# Altium footprint library SOP-8_ISO1050.PcbLib: 1 footprints
Each footprint in its own frame and in the unit in brackets; x right, y up, seen from the top. Pads: shape width x height; smd on the part's side, far side on the other; paste and mask are expansions set on the pad; w line width, h text height; cw(c..) or ccw(c..) is an arc to the next point about the centre after c.
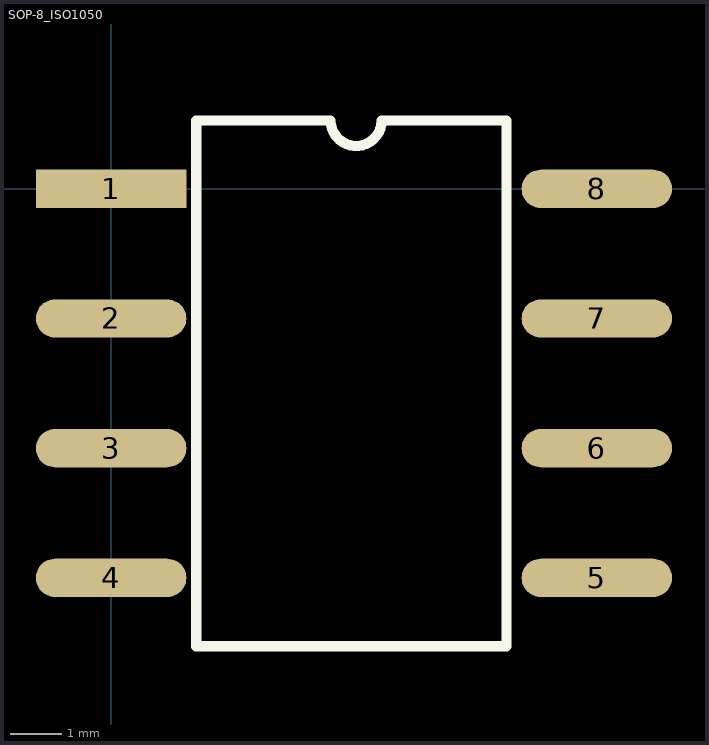
[diagram p0: the footprint, top view; thin cyan lines are the x and y axes]

## SOP-8_ISO1050 [mm]
pads (8):
  rect 2.95x0.75 smd: 1(0,0)
  oval 2.95x0.75 smd: 2(0,-2.54) 3(0,-5.08) 4(0,-7.62) 5(9.516,-7.62) 6(9.516,-5.08) 7(9.516,-2.54) 8(9.516,0)
Top Overlay:
  lines w0.2: 1.668,-8.96 7.747,-8.96 7.747,1.34 5.3,1.34 cw(c4.8,1.34) 4.3,1.34 1.668,1.34 1.668,-8.96
3D body "SOP-8-2_54.step": height 2.05, standoff 0, extent 1.35,-8.51 8.15,0.89